# EAGLE library part TPS3106 (library TPS310x)
Ultralow Supply-Current/Supply-Voltage Supervisory Circuits
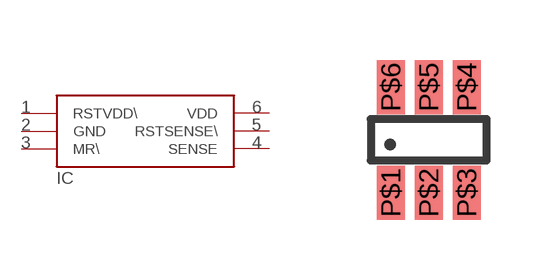
[diagram p0: symbol with the pads of SO-06; footprint SO-06]

Designator prefix IC

## TPS3106  [SO-06]
P$1  RSTVDD\  oc
P$2  GND  pwr
P$3  MR\  in
P$4  SENSE  in
P$5  RSTSENSE\  oc
P$6  VDD  pwr

## Footprint SO-06 (pad centres in mm)
smd 0.7 x 1.35: P$1 -0.95,-1.32; P$2 0,-1.32; P$3 0.95,-1.32; P$4 0.95,1.32; P$5 0,1.32; P$6 -0.95,1.32